# EAGLE library part STMICRO-LSM303DLH (library FaBo-Axis)
STMicroelectronics LSM303DLH
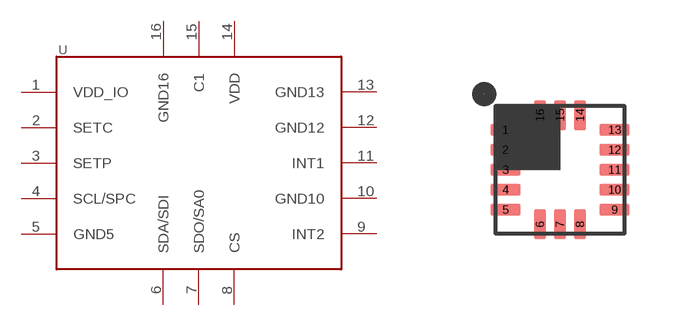
[diagram p5: symbol with the pads of STMICRO-LSM303DLH; footprint STMICRO-LSM303DLH]

Designator prefix -

## STMICRO-LSM303DLH  [STMICRO-LSM303DLH]
1  VDD_IO
2  SETC
3  SETP
4  SCL/SPC
5  GND5
6  SDA/SDI
7  SDO/SA0
8  CS
9  INT2
10  GND10
11  INT1
12  GND12
13  GND13
14  VDD
15  C1
16  GND16

## Footprint STMICRO-LSM303DLH (pad centres in mm)
smd 0.75 x 0.31: 1 -1.365,1; 2 -1.365,0.5; 3 -1.365,0; 4 -1.365,-0.5; 5 -1.365,-1; 9 1.365,-1; 10 1.365,-0.5; 11 1.365,0; 12 1.365,0.5; 13 1.365,1
smd 0.31 x 0.75: 6 -0.5,-1.365; 7 0,-1.365; 8 0.5,-1.365; 14 0.5,1.365; 15 0,1.365; 16 -0.5,1.365